# Altium footprint library ESPLib.PcbLib: 1 footprints
Each footprint in its own frame and in the unit in brackets; x right, y up, seen from the top. Pads: shape width x height; smd on the part's side, far side on the other; paste and mask are expansions set on the pad; w line width, h text height; cw(c..) or ccw(c..) is an arc to the next point about the centre after c.
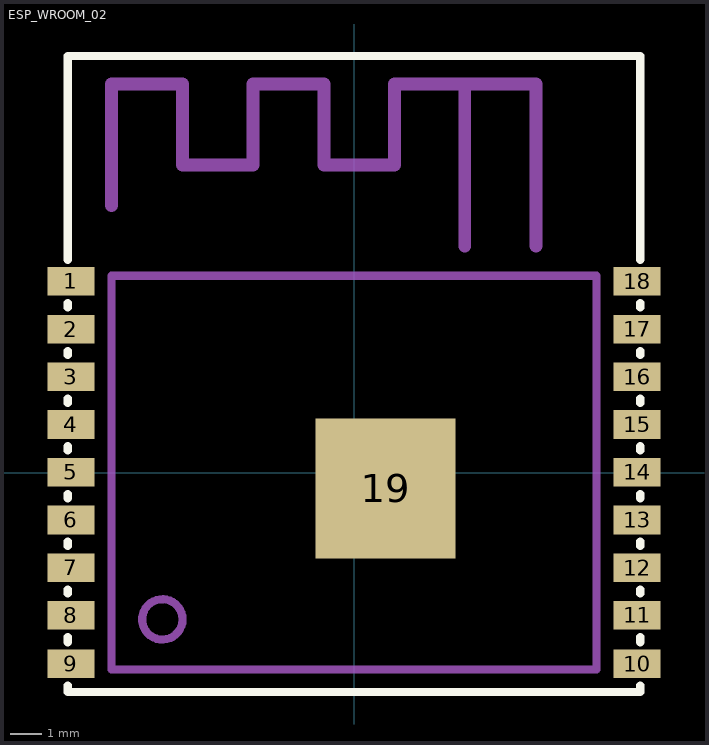
[diagram p0: the footprint, top view; thin cyan lines are the x and y axes]

## ESP_WROOM_02 [mil]
pads (19):
  rect 58.5x35.4 smd: 1(-350,236.5) 2(-350,177.5) 3(-350,118.5) 4(-350,59.5) 5(-350,0.5) 6(-350,-58.5) 7(-350,-117.5) 8(-350,-176.5) 9(-350,-236.5) 10(350,-236.5) 11(350,-176.5) 12(350,-117.5) 13(350,-58.5) 14(350,0.5) 15(350,59.5) 16(350,118.5) 17(350,177.5) 18(350,236.5)
  rect 173.23x173.23 smd: 19(39.04,-19.53)
Top Overlay:
  lines w10: -354,-263.3 -354,-271.5 354,-271.5 354,-263.3 ; -354,-209.7 -354,-203.3 ; -354,-149.7 -354,-144.3 ; -354,-90.7 -354,-85.3 ; -354,-31.7 -354,-26.3 ; -354,27.3 -354,32.7 ; -354,86.3 -354,91.7 ; -354,145.3 -354,150.7 ; -354,204.3 -354,209.7 ; -354,263.3 -354,515.5 354,515.5 354,263.3 ; 354,-209.7 354,-203.3 ; 354,-149.7 354,-144.3 ; 354,-90.7 354,-85.3 ; 354,-31.7 354,-26.3 ; 354,27.3 354,32.7 ; 354,86.3 354,91.7 ; 354,145.3 354,150.7 ; 354,204.3 354,209.7
Mechanical 15:
  circle w10: c-237,-181.5 r25
  lines w10: -300,-243.5 -300,243.5 300,243.5 300,-243.5 -300,-243.5
  lines w16: -300,330.5 -300,480.5 -212,480.5 -212,380.5 -125,380.5 -125,480.5 -37,480.5 -37,380.5 50,380.5 50,480.5 137,480.5 ; 137,280.5 137,480.5 ; 225,280.5 225,480.5 137,480.5